# Altium footprint library Lipo_battery.PcbLib: 1 footprints
Each footprint in its own frame and in the unit in brackets; x right, y up, seen from the top. Pads: shape width x height; smd on the part's side, far side on the other; paste and mask are expansions set on the pad; w line width, h text height; cw(c..) or ccw(c..) is an arc to the next point about the centre after c.
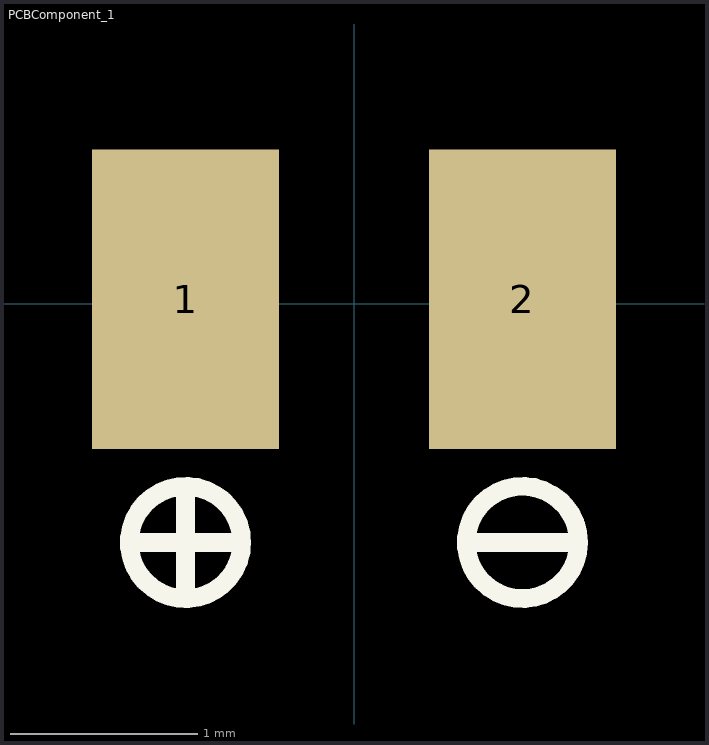
[diagram p0: the footprint, top view; thin cyan lines are the x and y axes]

## PCBComponent_1 [mm]
pads (2):
  rect 1x1.6 smd: 1(-0.9,0.025) 2(0.9,0.025)
Top Overlay:
  circle w0.1: c-0.9,-1.275 r0.3
  circle w0.1: c0.9,-1.275 r0.3
  lines w0.1: -1.199,-1.297 -1.177,-1.275 -0.75,-1.275 ; -0.898,-1.575 -0.9,-1.573 -0.9,-1.275 ; -0.888,-0.975 -0.9,-0.988 -0.9,-1.275 ; 0.601,-1.293 0.619,-1.275 0.9,-1.275 ; -0.9,-1.275 -0.6,-1.275 -0.9,-1.275 ; 0.9,-1.275 1.2,-1.275 0.9,-1.275